# Altium footprint library Wurth 744314200.PcbLib: 1 footprints
Each footprint in its own frame and in the unit in brackets; x right, y up, seen from the top. Pads: shape width x height; smd on the part's side, far side on the other; paste and mask are expansions set on the pad; w line width, h text height; cw(c..) or ccw(c..) is an arc to the next point about the centre after c.
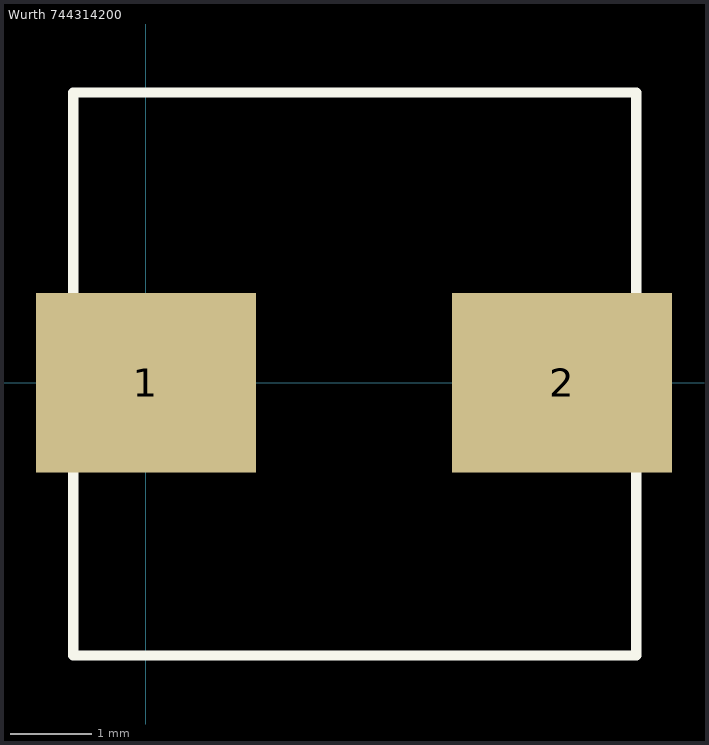
[diagram p0: the footprint, top view; thin cyan lines are the x and y axes]

## Wurth 744314200 [mm]
pads (2):
  rect 2.7x2.2 smd: 1(0,0) 2(5.1,0)
Top Overlay:
  lines w0.127: -0.889,-3.344 -0.889,0 -0.889,3.556 6.011,3.556 6.011,-3.344 -0.889,-3.344